# Altium schematic symbol library 声控LED旋律灯电路设计.SCHLIB: 7 symbols
Pins are listed as number, name and electrical type; pins without a type are passive.

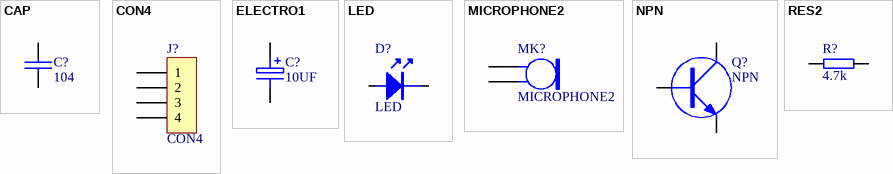
[diagram p0: symbols CAP to RES2]

## CAP
designator C?, comment 104
Capacitor
footprint RAD0.1
footprint RAD0.2
footprint R/C0805
footprint R/C1206
footprint R/C0805
pins: 1, 2

## CON4
designator J?
Connector
footprint SIP4
pins: 1, 2, 3, 4

## ELECTRO1
designator C?, comment 10UF
Electrolytic Capacitor
footprint RB.1/.2
footprint RB.2/.4
pins: 1, 2

## LED
designator D?
footprint LED
footprint D0805
pins: A, K

## MICROPHONE2
designator MK?
Microphone
footprint MIC1
pins: 1, 2

## NPN
designator Q?
footprint TO-92C
footprint TO-92D
footprint TO-39A
pins: B, C, E

## RES2
designator R?, comment 4.7k
footprint AXIAL0.3
footprint AXIAL0.4
footprint AXIAL0.1
footprint AXIAL1.0
footprint R/C0805
footprint R/C0805
pins: 1, 2